# Altium footprint library 5V2A Flyback converter pcb library.PcbLib: 16 footprints
Each footprint in its own frame and in the unit in brackets; x right, y up, seen from the top. Pads: shape width x height; smd on the part's side, far side on the other; paste and mask are expansions set on the pad; w line width, h text height; cw(c..) or ccw(c..) is an arc to the next point about the centre after c.
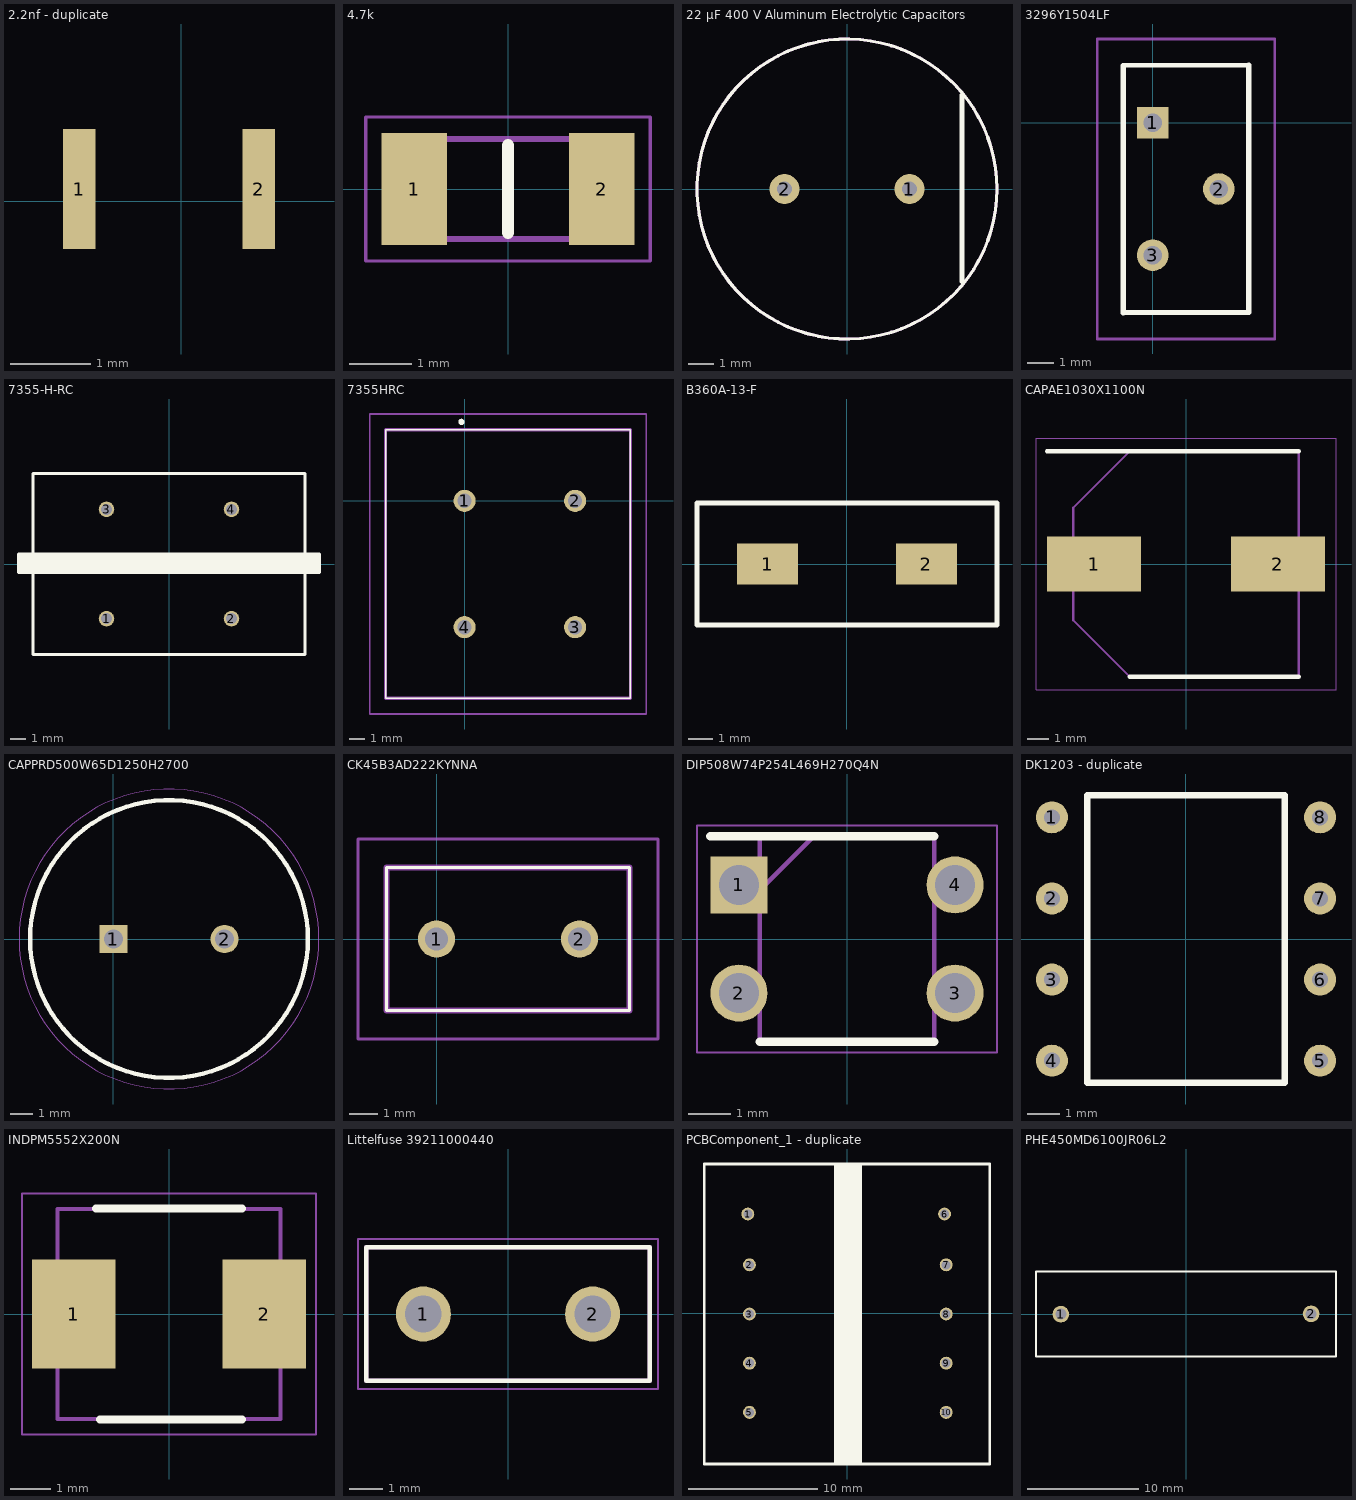
[diagram p0: the footprints below, top view; thin cyan lines are the x and y axes]

## 2.2nf - duplicate [mm]
pads (2):
  rect 0.4x1.5 smd: 1(-1.27,0.152) 2(0.965,0.152)
3D body "C0805C222K5RACTU.stp": height 0.89, standoff 0.01, extent -1.235,-0.573 0.965,0.877

## 4.7k [mm]
pads (2):
  rect 1.05x1.8 smd: 1(-1.5,0) 2(1.5,0)
Top Overlay:
  lines w0.2: 0,-0.7 0,0.7
Mechanical 15:
  lines w0.1: -1.575,-0.8 1.575,-0.8 1.575,0.8 -1.575,0.8 -1.575,-0.8
Mechanical 20:
  lines w0.05: -2.275,-1.15 2.275,-1.15 2.275,1.15 -2.275,1.15 -2.275,-1.15
3D body "CRCW12064K70FKEA.stp": height 0.52, standoff -0.03, extent -1.473,-0.762 1.727,0.838

## 22 µF 400 V Aluminum Electrolytic Capacitors [mm]
pads (2):
  round 1.2 hole 0.6: 1(2.5,0) 2(-2.5,0)
Top Overlay:
  circle w0.127: c0,0 r6
  lines w0.2: 4.6,-3.708 4.6,3.759
Mechanical 13:
  circle w0.127: c0,0 r6
Mechanical 15:
  circle w0.05: c0,0 r6
3D body "step_temp.STEP": height 19, standoff -27, extent -6.237,-6.1 6.237,6.4

## 3296Y1504LF [mm]
pads (3):
  rect 1.217x1.217 hole 0.71: 1(0,0)
  round 1.217 hole 0.71: 2(2.54,-2.54) 3(0,-5.08)
Top Overlay:
  lines w0.2: -1.14,-7.305 -1.14,2.21 3.69,2.225 3.69,-7.29 -1.14,-7.29
Mechanical 15:
  lines w0.1: -1.14,-7.305 -1.14,2.225 3.69,2.225 3.69,-7.305 -1.14,-7.305
Mechanical 20:
  lines w0.1: -2.14,-8.305 -2.14,3.225 4.69,3.225 4.69,-8.305 -2.14,-8.305
3D body "3296Y-1-504LF.stp": height 17.97, standoff 0.01, extent -1.016,-7.366 3.819,2.159

## 7355-H-RC [mm]
pads (4):
  round 1 hole 0.7: 1(-4,-3.5) 2(4,-3.5) 3(-4,3.5) 4(4,3.5)
Top Overlay:
  rectangle: 0,0.05 9.6,0.6
  rectangle: 4.8,-0.5 9.6,0.05
  rectangle: 0,-0.5 4.8,0.6
  rectangle: 4.8,-0.5 8.7,0.6
  rectangle: 8.7,-0.5 9.6,0.6
  rectangle: 4.8,-0.5 8.7,0.05
  rectangle: 0,-0.5 8.7,0.6
  rectangle: -0.9,-0.5 0,0.6
  rectangle: -9.6,-0.5 -0.9,0.6
  rectangle: -5,0 -0.644,0.158
  rectangle: -5,-0.5 0,0.158
  rectangle: -5,0.158 0,0.6
  lines w0.2: -8.7,-5.8 -8.7,5.8 8.7,5.8 8.7,-5.8 0.3,-5.8 -8.7,-5.8
  lines w0.254: 0,-0.5 -9.6,-0.5 -9.6,0.6 0,0.6 ; 0,-0.5 0,0.6 ; 0,-0.5 9.6,-0.5 9.6,0.6 0,0.6 ; 0,-0.5 0,0.6
3D body "7355-h-rc.stp": height 16.01, standoff 0.01, extent -8.449,-7.321 8.551,8.179

## 7355HRC [mm]
pads (4):
  round 1.4 hole 0.9: 1(0,0) 2(7,0) 3(7,-8) 4(0,-8)
Top Overlay:
  lines w0.1: -5,-12.5 -5,4.5 10.5,4.5 10.5,-12.5 -5,-12.5
  lines w0.2: -0.2,4.9 ccw(c-0.2,5) -0.2,5.1 ccw(c-0.2,5) -0.2,4.9
Mechanical 13:
  lines w0.2: -5,-12.5 -5,4.5 10.5,4.5 10.5,-12.5 -5,-12.5
Mechanical 15:
  lines w0.1: -6,-13.5 -6,5.5 11.5,5.5 11.5,-13.5 -6,-13.5
3D body "7355-H-RC.stp": height 12.1, standoff -5, extent -5,-12.5 10.5,4.5

## B360A-13-F [mm]
pads (2):
  rect 2.5x1.7 smd: 1(-3.25,0) 2(3.25,0)
Top Overlay:
  lines w0.2: -6.15,-2.5 6.15,-2.5 6.15,2.5 -6.15,2.5 -6.15,0 -6.15,-2.5
3D body "b340a-13-f.stp": height 2.19, standoff 0.01, extent -2.598,-1.335 2.598,1.27

## CAPAE1030X1100N [mm]
pads (2):
  rect 4.3x2.5 smd: 1(-4.2,0) 2(4.2,0)
Top Overlay:
  lines w0.2: -6.35,5.15 5.15,5.15 ; -2.575,-5.15 5.15,-5.15
Mechanical 15:
  lines w0.1: -5.15,-2.575 -5.15,2.575 -2.575,5.15 5.15,5.15 5.15,-5.15 -2.575,-5.15 -5.15,-2.575
Mechanical 20:
  lines w0.05: -6.85,-5.75 6.85,-5.75 6.85,5.75 -6.85,5.75 -6.85,-5.75
3D body "RPS1C101MCN1GS.stp": height 11, standoff 0, extent -5.65,-5.207 5.65,5.293

## CAPPRD500W65D1250H2700 [mm]
pads (2):
  rect 1.275x1.275 / inner round 1.275 / far side rect 1.275x1.275 hole 0.85: 1(0,0)
  round 1.275 hole 0.85: 2(5,0)
Top Overlay:
  circle w0.2: c2.5,0 r6.25
Mechanical 15:
  circle w0.1: c2.5,0 r6.25
Mechanical 20:
  circle w0.05: c2.5,0 r6.75
3D body "ECA-2GHG220.stp": height 27, standoff -10, extent -3.987,-6.497 9,6.497

## CK45B3AD222KYNNA [mm]
pads (2):
  round 1.3 hole 0.8: 1(0,0) 2(5,0)
Top Overlay:
  lines w0.1: -1.75,-2.5 6.75,-2.5 6.75,2.5 -1.75,2.5 -1.75,-2.5
Mechanical 15:
  lines w0.2: -1.75,-2.5 6.75,-2.5 6.75,2.5 -1.75,2.5 -1.75,-2.5
Mechanical 20:
  lines w0.1: -2.75,-3.5 7.75,-3.5 7.75,3.5 -2.75,3.5 -2.75,-3.5
3D body "CK45-B3AD222KYNNA.stp": height 4.49, standoff -11.5, extent -1.96,-3.127 7.04,2.873

## DIP508W74P254L469H270Q4N [mm]
pads (4):
  rect 1.34x1.34 / inner round 1.34 / far side rect 1.34x1.34 hole 0.94: 1(-2.54,1.27)
  round 1.34 hole 0.94: 2(-2.54,-1.27) 3(2.54,-1.27) 4(2.54,1.27)
Top Overlay:
  lines w0.2: -3.21,2.415 2.05,2.415 ; -2.05,-2.415 2.05,-2.415
Mechanical 15:
  lines w0.1: -2.05,1.145 -0.78,2.415 ; -2.05,-2.415 2.05,-2.415 2.05,2.415 -2.05,2.415 -2.05,-2.415
Mechanical 20:
  lines w0.05: -3.525,-2.665 3.525,-2.665 3.525,2.665 -3.525,2.665 -3.525,-2.665
3D body "MB6M-E3_45.stp": height 2.7, standoff -3.5, extent -2.852,-2.396 2.598,2.294

## DK1203 - duplicate [mm]
pads (8):
  round 1 hole 0.5: 1(-4.2,3.81) 2(-4.2,1.27) 3(-4.2,-1.27) 4(-4.2,-3.81) 5(4.2,-3.81) 6(4.2,-1.27) 7(4.2,1.27) 8(4.2,3.81)
Top Overlay:
  lines w0.2: -3.1,-4.5 3.1,-4.5 3.1,4.5 0,4.5 -3.1,4.5 -3.1,-4.5
3D body "User Library-DIP8-3.STEP": height 7.24, standoff 0.01, extent -3.97,-4.527 3.97,4.623

## INDPM5552X200N [mm]
pads (2):
  rect 2.05x2.7 smd: 1(-2.35,0) 2(2.35,0)
Top Overlay:
  lines w0.2: -1.8,2.6 1.8,2.6 ; -1.7,-2.6 1.8,-2.6
Mechanical 15:
  lines w0.1: -2.745,-2.59 2.745,-2.59 2.745,2.59 -2.745,2.59 -2.745,-2.59
Mechanical 20:
  lines w0.05: -3.625,-2.967 3.625,-2.967 3.625,2.967 -3.625,2.967 -3.625,-2.967
3D body "IHLP2020BZER100M01.stp": height 1.93, standoff 0.01, extent -2.725,-2.54 2.725,2.606

## Littelfuse 39211000440 [mm]
pads (2):
  round 1.65 hole 1.1: 1(-2.54,0) 2(2.54,0)
Top Overlay:
  lines w0.127: -4.25,-2 4.25,-2 4.25,2 -4.25,2 -4.25,-2
Mechanical 13:
  lines w0.127: -4.25,-2 4.25,-2 4.25,2 -4.25,2 -4.25,-2
Mechanical 15:
  lines w0.05: -4.5,-2.25 -4.5,2.25 4.5,2.25 4.5,-2.25 -4.5,-2.25
3D body "step_temp.STEP": height 8, standoff -19.1, extent -4.25,-2 4.25,2

## PCBComponent_1 - duplicate [mm]
pads (10):
  round 1 hole 0.7 paste-2539.97 mask+0: 1(-7.683,7.683) 2(-7.556,3.746) 3(-7.556,-0.064) 4(-7.556,-3.873) 5(-7.556,-7.683) 6(7.556,7.683) 7(7.683,3.746) 8(7.683,-0.064) 9(7.683,-3.873) 10(7.683,-7.683)
Top Overlay:
  rectangle: -0.889,-11.582 1.016,11.506
  lines w0.2: -11.049,-11.684 11.049,-11.684 11.049,11.557 -10.541,11.557 -11.049,11.557 -11.049,-11.684
  lines w0.254: -0.889,-11.557 1.016,-11.557 1.016,11.557 -0.889,11.557 -0.889,-11.557
3D body "c61036-a0014-b200_ef20_sw.step": height 19.81, standoff 0.01, extent -10.595,-11.112 10.604,10.888

## PHE450MD6100JR06L2 [mm]
pads (2):
  round 1.5 / inner oval 2.5x1.5 / far side round 1.5 hole 1: 1(-11.227,-0.013) 2(11.227,0.013)
Top Overlay:
  lines w0.2: -13.462,3.302 -13.462,-3.81 13.462,-3.81 13.462,3.81 -12.954,3.81 -13.462,3.81 -13.462,3.327
3D body "phe450md6100jr06l2.stp": height 19.51, standoff 0.01, extent -13.005,-3.289 12.995,3.213